# Altium schematic symbol library AMT.SchLib: 2 symbols
Pins are listed as number, name and electrical type; pins without a type are passive.

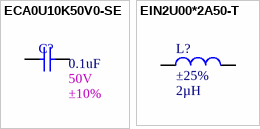
[diagram p0: symbols ECA0U10K50V0-SE to EIN2U00*2A50-T]

## ECA0U10K50V0-SE
designator C?, comment value 0.1uF  1st Auxiliary Field: 50V  2nd Auxiliary Field: ±10%  (hidden comment: CAP CER 0.1UF 50V X7R 0805)
Manufacturer Part Number: CL21B104KBC5PNL; Manufacturer: Samsung Electro-Mechanics; Internal Part Number: ECA0U10K50V0-SE; Vendor Part Number: 1276-7000-1-ND; 3rd Auxiliary Field: RoHS Compliant; Component Height (mm): 0.95mm; 4th Auxiliary Field: AEC-Q200; Vendor Name: Digi-Key; Part Type: CAP CER 0.1UF 50V X7R 0805; Temp Co: X7R
footprint SMDC0805 (Footprint not found)
pins: 1, 2

## EIN2U00*2A50-T
designator L?, comment value 2µH  1st Auxiliary Field: ±25%  (hidden comment: FIXED IND 2UH 2.5A 11 MOHM TH)
Manufacturer: Würth Elektronik; Internal Part Number: EIN2U00*2A50-T; Manufacturer Part Number: 744710203; Vendor Part Number: 732-3249-ND; 3rd Auxiliary Field: ROHS3 Compliant; Component Height (mm): 3.2mm; Vendor Name: Digi-Key; Temp Co: -40°C ~ 150°C; 2nd Auxiliary Field: 2.5A; Part Type: FIXED IND 2UH 2.5A 11 MOHM TH; 4th Auxiliary Field: *
footprint IND_744710203 (FIXED IND 2UH 2.5A 11 MOHM TH)
pins: 1, 2
1 alternate drawing of the same symbol